# EAGLE library part CHS-04 (library switch-copal)
Copal Electronics, Distributor Bürklin
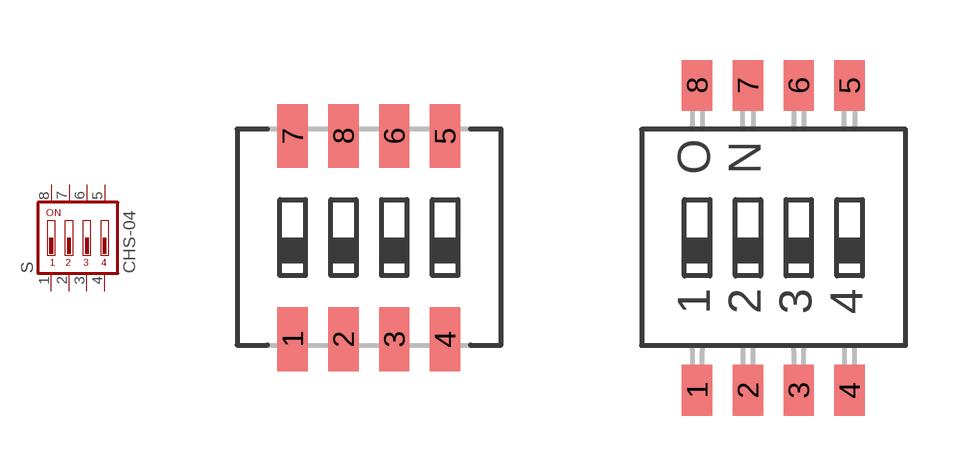
[diagram p2: symbol with the pads of CHS-04A; footprints CHS-04A, CHS-04B]

Designator prefix S

## CHS-04A  [CHS-04A]
1  1  pas
2  2  pas
3  3  pas
4  4  pas
5  5  pas
6  6  pas
7  7  pas
8  8  pas

## CHS-04B  [CHS-04B]
Pads as for CHS-04A

## Footprint CHS-04A (pad centres in mm)
4 bits, J-hook
smd 0.76 x 1.6: 1 0,-2.54; 2 1.27,-2.54; 3 2.54,-2.54; 4 3.81,-2.54; 5 3.81,2.54; 6 2.54,2.54; 7 0,2.54; 8 1.27,2.54

## Footprint CHS-04B (pad centres in mm)
4 bits, gull wing
smd 0.76 x 1.27: 1 0,-3.81; 2 1.27,-3.81; 3 2.54,-3.81; 4 3.81,-3.81; 5 3.81,3.81; 6 2.54,3.81; 7 1.27,3.81; 8 0,3.81